# EAGLE library part 78M6612 (library Cool_Electricity)
78M6612
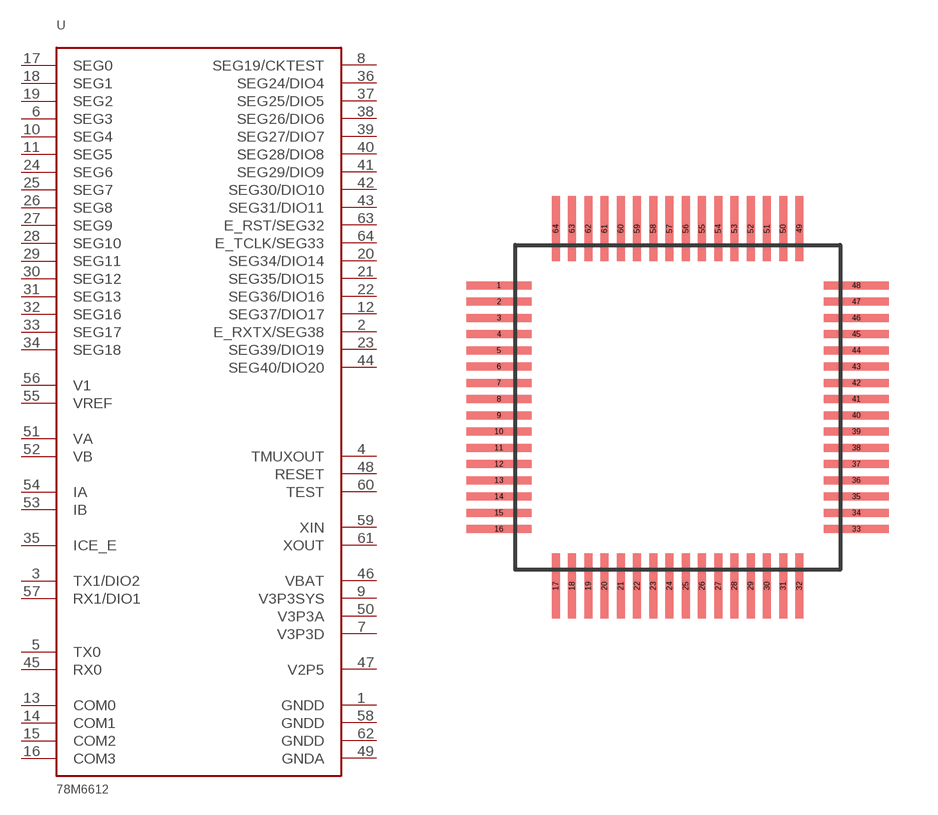
[diagram p1: symbol with the pads of 78M6612; footprint 78M6612]

Designator prefix U

## 78M6612  [78M6612]
1  GNDD
2  E_RXTX/SEG38
3  TX1/DIO2
4  TMUXOUT
5  TX0
6  SEG3
7  V3P3D
8  SEG19/CKTEST
9  V3P3SYS
10  SEG4
11  SEG5
12  SEG37/DIO17
13  COM0
14  COM1
15  COM2
16  COM3
17  SEG0
18  SEG1
19  SEG2
20  SEG34/DIO14
21  SEG35/DIO15
22  SEG36/DIO16
23  SEG39/DIO19
24  SEG6
25  SEG7
26  SEG8
27  SEG9
28  SEG10
29  SEG11
30  SEG12
31  SEG13
32  SEG16
33  SEG17
34  SEG18
35  ICE_E
36  SEG24/DIO4
37  SEG25/DIO5
38  SEG26/DIO6
39  SEG27/DIO7
40  SEG28/DIO8
41  SEG29/DIO9
42  SEG30/DIO10
43  SEG31/DIO11
44  SEG40/DIO20
45  RX0
46  VBAT
47  V2P5
48  RESET
49  GNDA
50  V3P3A
51  VA
52  VB
53  IB
54  IA
55  VREF
56  V1
57  RX1/DIO1
58  GNDD
59  XIN
60  TEST
61  XOUT
62  GNDD
63  E_RST/SEG32
64  E_TCLK/SEG33

## Footprint 78M6612 (pad centres in mm)
smd 2 x 0.25: 1 -5.5,3.75; 2 -5.5,3.25; 3 -5.5,2.75; 4 -5.5,2.25; 5 -5.5,1.75; 6 -5.5,1.25; 7 -5.5,0.75; 8 -5.5,0.25; 9 -5.5,-0.25; 10 -5.5,-0.75; 11 -5.5,-1.25; 12 -5.5,-1.75; 13 -5.5,-2.25; 14 -5.5,-2.75; 15 -5.5,-3.25; 16 -5.5,-3.75; 33 5.5,-3.75; 34 5.5,-3.25; 35 5.5,-2.75; 36 5.5,-2.25; 37 5.5,-1.75; 38 5.5,-1.25; 39 5.5,-0.75; 40 5.5,-0.25; 41 5.5,0.25; 42 5.5,0.75; 43 5.5,1.25; 44 5.5,1.75; 45 5.5,2.25; 46 5.5,2.75; 47 5.5,3.25; 48 5.5,3.75
smd 0.25 x 2: 17 -3.75,-5.5; 18 -3.25,-5.5; 19 -2.75,-5.5; 20 -2.25,-5.5; 21 -1.75,-5.5; 22 -1.25,-5.5; 23 -0.75,-5.5; 24 -0.25,-5.5; 25 0.25,-5.5; 26 0.75,-5.5; 27 1.25,-5.5; 28 1.75,-5.5; 29 2.25,-5.5; 30 2.75,-5.5; 31 3.25,-5.5; 32 3.75,-5.5; 49 3.75,5.5; 50 3.25,5.5; 51 2.75,5.5; 52 2.25,5.5; 53 1.75,5.5; 54 1.25,5.5; 55 0.75,5.5; 56 0.25,5.5; 57 -0.25,5.5; 58 -0.75,5.5; 59 -1.25,5.5; 60 -1.75,5.5; 61 -2.25,5.5; 62 -2.75,5.5; 63 -3.25,5.5; 64 -3.75,5.5